# Altium schematic symbol library Battery Charger.SchLib: 6 symbols
Pins are listed as number, name and electrical type; pins without a type are passive.

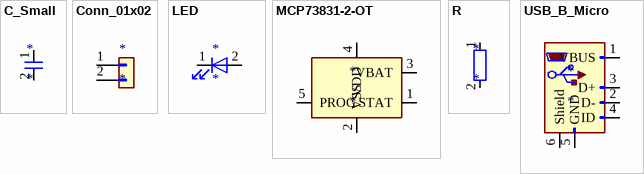
[diagram p0: symbols C_Small to USB_B_Micro]

## C_Small
designator *
pins: 1, 2

## Conn_01x02
designator *
pins: 1 Pin_1, 2 Pin_2

## LED
designator *
pins: 1 K, 2 A

## MCP73831-2-OT
designator *
pins: 1 STAT, 2 VSS, 3 VBAT, 4 VDD, 5 PROG

## R
designator *
pins: 1, 2

## USB_B_Micro
designator *
pins: 1 VBUS, 2 D-, 3 D+, 4 ID, 5 GND, 6 Shield